# EAGLE library part A4915 (library LARS_409_MC3)
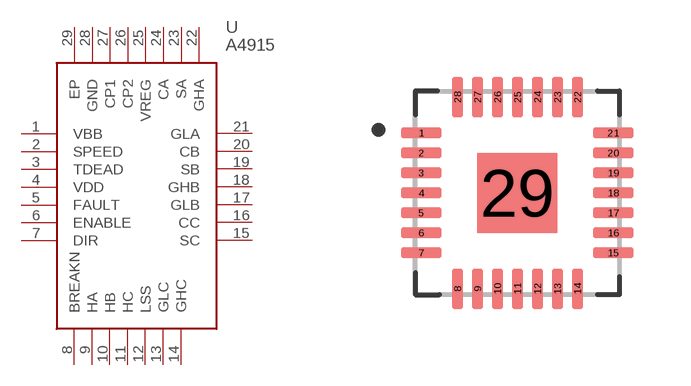
[diagram p14: symbol with the pads of QFN28; footprint QFN28]

Designator prefix U

## A4915  [QFN28]
1  VBB
2  SPEED
3  TDEAD
4  VDD
5  FAULT
6  ENABLE
7  DIR
8  BREAKN
9  HA
10  HB
11  HC
12  LSS
13  GLC
14  GHC
15  SC
16  CC
17  GLB
18  GHB
19  SB
20  CB
21  GLA
22  GHA
23  SA
24  CA
25  VREG
26  CP2
27  CP1
28  GND
29  EP

## Footprint QFN28 (pad centres in mm)
28-QFN, 0.50 mm pitch, 5.00 X 5.00 X 1.00 mm body, 3.15 X 3.15 mm thermal pad 28-pin QFN package with 0.50 mm pitch with body size 5.00 X 5.00 X 1.00 mm and thermal pad size 3.15 X 3.15 mm
smd 1.01 x 0.27: 1 -2.4,1.5; 2 -2.4,1; 3 -2.4,0.5; 4 -2.4,0; 5 -2.4,-0.5; 6 -2.4,-1; 7 -2.4,-1.5; 15 2.4,-1.5; 16 2.4,-1; 17 2.4,-0.5; 18 2.4,0; 19 2.4,0.5; 20 2.4,1; 21 2.4,1.5
smd 0.27 x 1.01: 8 -1.5,-2.4; 9 -1,-2.4; 10 -0.5,-2.4; 11 0,-2.4; 12 0.5,-2.4; 13 1,-2.4; 14 1.5,-2.4; 22 1.5,2.4; 23 1,2.4; 24 0.5,2.4; 25 0,2.4; 26 -0.5,2.4; 27 -1,2.4; 28 -1.5,2.4
smd 2 x 2: 29 0,0